# Altium schematic symbol library RELAY_SolidState.SchLib: 2 symbols
Pins are listed as number, name and electrical type; pins without a type are passive.

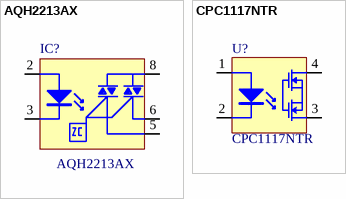
[diagram p0: symbols AQH2213AX to CPC1117NTR]

## AQH2213AX
designator IC?
Relay SSR 50mA 1.3V DC-IN 0.9A 600V AC-OUT 7-Pin PDIP SMD T/R; Manufacturer: Panasonic; Load Current: 900mA; Throw Configuration: SPST; Number of Channels: 1; Forward Current: 20mA; Forward Voltage: 1.21V; Turn-On Delay Time: 100us; Supplier 1: Digi-Key; Manufacturer Part Number: AQH2213AX; Stock 1: 16735; Pricing 1: 1 = 1,73000, 10 = 1,62000, 25 = 1,44000, 50 = 1,36800, 100 = 1,29600, 250 = 1,15200, 500 = 1,08000 (USD); RoHS: Yes; Mount: Surface Mount; Case/Package: SMD/SMT; Number of Pins: 8; Min Operating Temperature: -30°C; Max Operating Temperature: 85°C; Termination: Gull Wing; Max Output Voltage: 600V; Max Input Current: 50mA; Output Voltage: 600V; Package Quantity: 1000; Packaging: Tape and Reel; RMS Current (Irms): 900mA; Relay Type: Relay; Length: 9.78mm; Width: 6.4mm; Height: 3.4mm; Lead Free: Lead Free; ComponentLink1URL: http://www.onlinecomponents.com/datasheet/aqh2213ax.aspx?p=10549798&src-supplier=Onlinecomponents.com; ComponentLink1Description: http://www.onlinecomponents.com/datasheet/aqh2213ax.aspx?p=10549798&src-supplier=Onlinecomponents.com; ComponentLink2URL: http://www.mouser.com/ds/2/315/semi_eng_aqh-1075920.pdf?src-supplier=Mouser; ComponentLink2Description: http://www.mouser.com/ds/2/315/semi_eng_aqh-1075920.pdf?src-supplier=Mouser; ComponentLink3URL: https://www3.panasonic.biz/ac/e_download/control/relay/solid-state/catalog/semi_eng_aqh.pdf?src-supplier=Digi-Key; ComponentLink3Description: https://www3.panasonic.biz/ac/e_download/control/relay/solid-state/catalog/semi_eng_aqh.pdf?src-supplier=Digi-Key; ComponentLink4URL: http://www3.panasonic.biz/ac/e_download/control/relay/solid-state/catalog/semi_eng_aqh.pdf?src-supplier=Digi-Key; ComponentLink4Description: http://www3.panasonic.biz/ac/e_download/control/relay/solid-state/catalog/semi_eng_aqh.pdf?src-supplier=Digi-Key; ComponentLink5URL: http://pewa.panasonic.com/assets/pcsd/catalog/aq-h-catalog.pdf?src-supplier=Future+Electronics; ComponentLink5Description: http://pewa.panasonic.com/assets/pcsd/catalog/aq-h-catalog.pdf?src-supplier=Future+Electronics; Supplier Part Number 1: 255-5998-1-ND
footprint 8-SMD
pins: 2 A, 3 C, 5 T2, 6 T2, 8 T1

## CPC1117NTR
designator U?
SSR RELAY SPST-NC 150MA 0-60V; Manufacturer 1: Ixys Clare; Throw Configuration: SPST; On-State Resistance: 16R; Max Output Voltage: 60V; Isolation Voltage: 1.5kV; Max Input Current: 50mA; Supplier 1: Digi-Key; Manufacturer Part Number 1: CPC1117NTR; Stock 1: 6811; Pricing 1: 1=1,21000, 10=1,13900, 25=1,01200, 50=0,96140, 100=0,91080, 250=0,80960, 500=0,75900, 1000=0,70840 (USD); RoHS: Yes; Mount: Surface Mount; Case/Package: SOP; Number of Pins: 4; Min Operating Temperature: -40°C; Max Operating Temperature: 85°C; Termination: Gull Wing; Load Current: 150mA; Input Current: 50mA; Package Quantity: 2000; Output Current: 150mA; Output Voltage: 60V; Relay Type: Relay; Packaging: Tape and Reel; Max Output Current: 150mA; Length: 4.089mm; Height: 2.184mm; Width: 3.8mm; Radiation Hardening: No; ComponentLink1URL: https://datasheet.ciiva.com/16498/cpc1117ntr-16498380.pdf?src-supplier=Future+Electronics; ComponentLink1Description: https://datasheet.ciiva.com/16498/cpc1117ntr-16498380.pdf?src-supplier=Future+Electronics; ComponentLink2URL: https://datasheet.ciiva.com/2421/cpc1117n-2421253.pdf?src-supplier=Digi-Key; ComponentLink2Description: https://datasheet.ciiva.com/2421/cpc1117n-2421253.pdf?src-supplier=Digi-Key; ComponentLink3URL: https://datasheet.ciiva.com/2421/cpc1117n-2421254.pdf?src-supplier=Digi-Key; ComponentLink3Description: https://datasheet.ciiva.com/2421/cpc1117n-2421254.pdf?src-supplier=Digi-Key; ComponentLink4URL: https://datasheet.ciiva.com/2421/cpc1117n-2421255.pdf?src-supplier=Digi-Key; ComponentLink4Description: https://datasheet.ciiva.com/2421/cpc1117n-2421255.pdf?src-supplier=Digi-Key; ComponentLink5URL: https://datasheet.ciiva.com/39122/3cpc1117n-39122778.pdf?src-supplier=Onlinecomponents.com; ComponentLink5Description: https://datasheet.ciiva.com/39122/3cpc1117n-39122778.pdf?src-supplier=Onlinecomponents.com; Value: CPC1117NTR; Supplier Part Number 1: CLA268CT-ND
footprint SOP-4
footprint SOP254P1000X365-4N (SOP, 4-Leads, Body 4,58x6,40mm, Pitch 2,54mm, IPC Medium Density)
pins: 1 A, 2 C, 3 E, 4 B